# Altium schematic symbol library ECD_Library.SchLib: 24 symbols
Pins are listed as number, name and electrical type; pins without a type are passive.

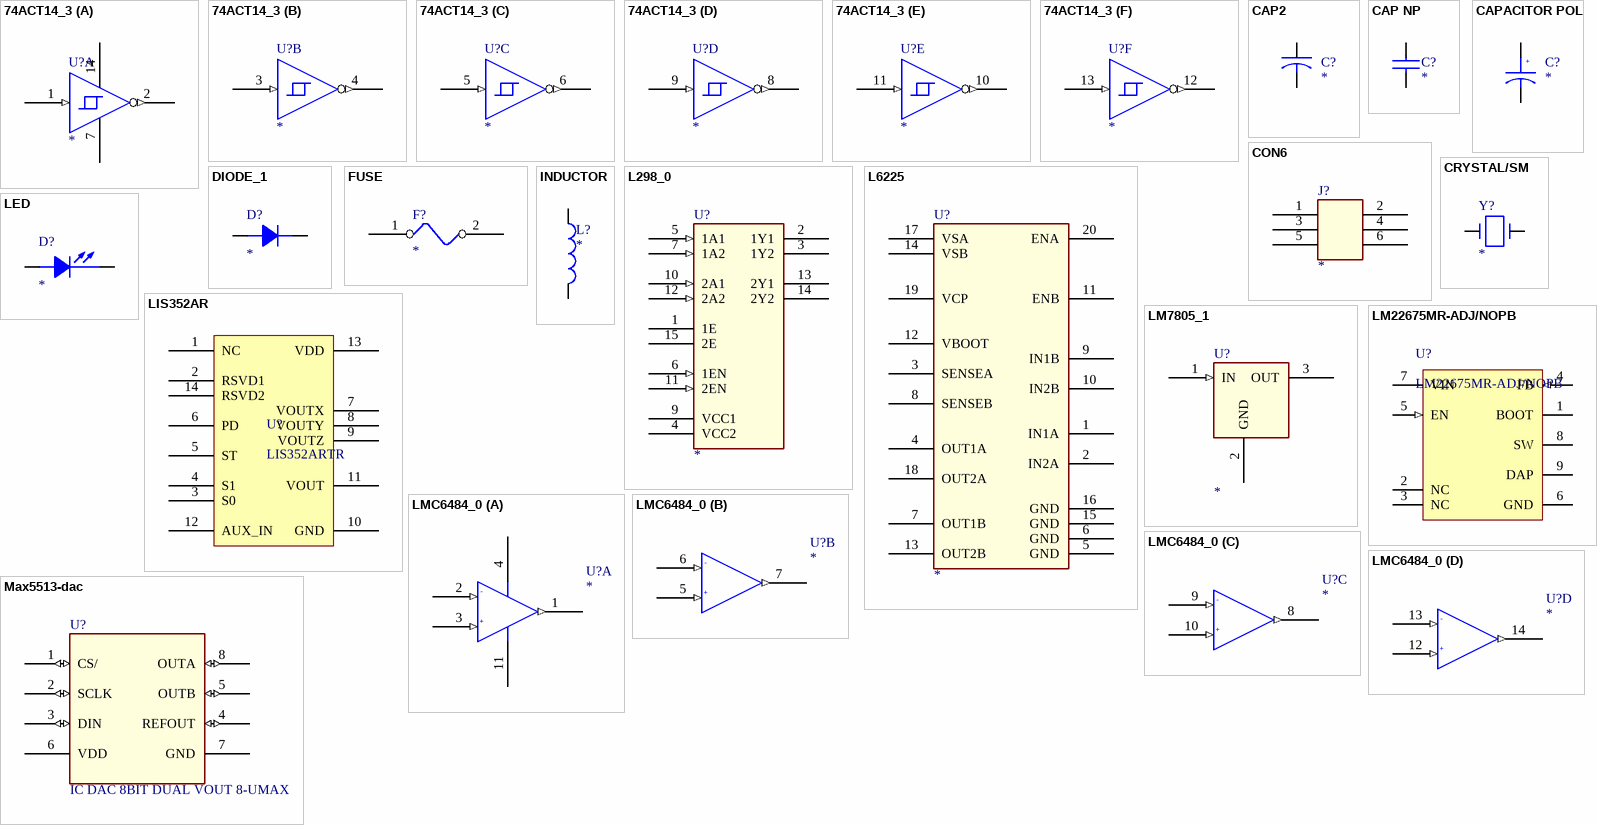
[diagram p0: symbols 74ACT14_3 to Max5513-dac]

## 74ACT14_3
designator U?
IC INVERTER HEX SCHMITT 14SOIC; MPN: 74ACT14SCX; PN: 74ACT14SCXCT-ND; URL: http://www.digikey.ca/product-detail/en/74ACT14SCX/74ACT14SCXCT-ND
footprint SOIC127P600X175-14M (SOIC, 14-Leads, Body 8.65x3.90mm, Pitch 1.27mm, IPC Low Density)
part A pins: 1 A (in), 2 Y (out), 7 GND_POWER (power), 14 VCC (power)
part B pins: 3 A (in), 4 Y (out)
part C pins: 5 A (in), 6 Y (out)
part D pins: 8 Y (out), 9 A (in)
part E pins: 10 Y (out), 11 A (in)
part F pins: 12 Y (out), 13 A (in)

## CAP2
designator C?
pins: 1, 2

## CAP NP
designator C?
pins: 1, 2

## CAPACITOR POL
designator C?
pins: 1, 2
text: +

## CON6
designator J?
CONN HEADER BRKWAY 6POS DL .100; MPN: 5-146254-3; PN: A105155-ND; URL: http://www.digikey.ca/product-detail/en/5-146254-3/A105155-ND
footprint HDR3X2 (Connector; Header Male; 3x2 Position)
pins: 1, 2, 3, 4, 5, 6

## CRYSTAL/SM
designator Y?
pins: 1, 2

## DIODE_1
designator D?
pins: 1 A, 2 C

## FUSE
designator F?
pins: 1, 2

## INDUCTOR
designator L?
pins: 1, 2

## L298_0
designator U?
IC BRIDGE DRIVER PAR 15MULTIWATT; MPN: L298N; PN: 497-1395-5-ND; URL: http://www.digikey.ca/product-detail/en/L298N/497-1395-5-ND
footprint ZIGZAG.100/L.850/15_VERT
pins: 1 1E, 2 1Y1 (hiz), 3 1Y2 (hiz), 4 VCC2 (power), 5 1A1 (in), 6 1EN (in), 7 1A2 (in), 8 GND_POWER (power) hidden to GND_POWER, 9 VCC1 (power), 10 2A1 (in), 11 2EN (in), 12 2A2 (in), 13 2Y1 (hiz), 14 2Y2 (hiz), 15 2E

## L6225
designator U?
IC MOTOR DRIVER PAR 20POWERSO; MPN: L6225PDTR; PN: 497-5345-1-ND; URL: http://www.digikey.ca/product-detail/en/L6225PDTR/497-5345-1-ND
footprint POWERSOP20
pins: 1 IN1A, 2 IN2A, 3 SENSEA (oc), 4 OUT1A, 5 GND (power), 6 GND (power), 7 OUT1B, 8 SENSEB (power), 9 IN1B, 10 IN2B, 11 ENB, 12 VBOOT (power), 13 OUT2B, 14 VSB (power), 15 GND (power), 16 GND (power), 17 VSA (power), 18 OUT2A, 19 VCP (power), 20 ENA

## LED
designator D?
pins: 1 A, 2 C

## LIS352AR
designator U?, comment LIS352ARTR
IC ACCELEROMETER 3AXIS LP 14LGA; PN: 497-11075-1-ND; MPN: LIS352ARTR; URL: http://www.digikey.ca/product-detail/en/LIS352ARTR/497-11075-1-ND
footprint LGA-14-3X5MM
pins: 1 NC "Internally not connected", 2 RSVD1 "Connect to Vdd", 3 S0 "Mux selector 0 (connect to Vdd or to GND)", 4 S1 "Mux selector 1 (connect to Vdd or to GND)", 5 ST "Self-test (logic 0: normal mode; logic 1: self-test)", 6 PD "Power-down (logic 0: normal mode; logic 1: power-down mode)", 7 VOUTX "Output voltage X channel", 8 VOUTY "Output voltage Y channel", 9 VOUTZ "Output voltage Z channel", 10 GND "0 V supply", 11 VOUT "Multiplexer output", 12 AUX_IN "Auxiliary input", 13 VDD "Power supply", 14 RSVD2 "Connect to Vdd"

## LM7805_1
designator U?
IC REG LDO 5V 1A TO220-3; MPN: LM7805CT; PN: LM7805CT-ND; URL: http://www.digikey.ca/product-detail/en/LM7805CT/LM7805CT-ND
footprint TO220
pins: 1 IN (in), 2 GND, 3 OUT (power)

## LM22675MR-ADJ/NOPB
designator U?
1A SIMPLE SWITCHER®, Step-Down Voltage Regulator with Precision Enable, 8-pin PSOP, Pb-Free; Manufacturer: National Semiconductor; MPN: LM22675MRE-ADJ/NOPB; PackageTopMarking: NSXYTT*L22675*ADJ; PowerWise: N; High-Reliability: Y; PN: LM22675MRE-ADJ/NOPBCT-ND; DatasheetVersion: Dec-2010; PackageVersion: revB, Dec-2007; PackageReference: MRA08B; PackageDescription: Molded, PSOP .193 x .154 x .058in, 8 Lead, .050in Pitch, Large DAP; PartNumber: LM22675MR-ADJ/NOPB; RoHS: Y; PinCount: 8; CompType: Switcher; Code_JEDEC: MS-012-AA; ComponentLink1Description: Manufacturer URL; ComponentLink1URL: http://www.national.com/; ComponentLink2Description: LM22675 Datasheet; ComponentLink2URL: http://www.national.com/ds/LM/LM22675.pdf; ComponentLink3Description: LM22675 Web Page; ComponentLink3URL: http://www.national.com/pf/LM/LM22675.html; ComponentLink4Description: MRA08B Package Page; ComponentLink4URL: http://www.national.com/packaging/folders/mra08b.html; URL: http://www.digikey.ca/product-detail/en/LM22675MRE-ADJ%2FNOPB/LM22675MRE-ADJ%2FNOPBCT-ND
footprint MRA08B_N (SOIC, 8-Leads, Body 4.9x3.9mm, Pitch 1.27mm, Thermal Pad, IPC Medium Density)
footprint MRA08B_L (SOIC, 8-Leads, Body 4.9x3.9mm, Pitch 1.27mm, Exposed Pad, IPC High Density)
footprint MRA08B_M (SOIC, 8-Leads, Body 4.9x3.9mm, Pitch 1.27mm, Thermal Pad, IPC Low Density)
pins: 1 BOOT, 2 NC, 3 NC, 4 FB (in), 5 EN (in), 6 GND (power), 7 VIN (power), 8 SW (power), 9 DAP (power)

## LMC6484_0
designator U?
IC OPAMP GP 1.5MHZ RRO 14SOIC; MPN: LMC6484IMX/NOPB; PN: LMC6484IMX/NOPBCT-ND; URL: http://www.digikey.ca/product-detail/en/LMC6484IMX%2FNOPB/LMC6484IMX%2FNOPBCT-ND
footprint SOIC127P600X175-14M-NS (SOIC, 14-Leads, Body 8.62x3.90mm, Pitch 1.27mm, IPC Low Density)
part A pins: 1 OUT1 (out), 2 INVIN 1 (in), 3 NINVIN 1 (in), 4 VCC (power), 11 -VCC (power)
part B pins: 5 NINVIN2 (in), 6 INVIN2 (in), 7 OUT2 (out)
part C pins: 8 OUT3 (out), 9 INVIN3 (in), 10 NINVIN3 (in)
part D pins: 12 NINVIN4 (in), 13 INVIN4 (in), 14 OUT4 (out)
part A text: -; +
part B text: -; +
part C text: -; +
part D text: -; +

## Max5513-dac
designator U?, comment IC DAC 8BIT DUAL VOUT 8-UMAX
MPN: MAX5513EUA+; PN: MAX5513EUA+-ND; URL: http://www.digikey.ca/product-detail/en/MAX5513EUA%2B/MAX5513EUA%2B-ND
footprint TSOP65P490X110-8M (TSOP, 8-Leads, Body 3.00x3.00mm, Pitch 0.65mm, IPC Low Density)
pins: 1 CS/ (io), 2 SCLK (io), 3 DIN (io), 4 REFOUT (io), 5 OUTB (io), 6 VDD (power), 7 GND (power), 8 OUTA (io)

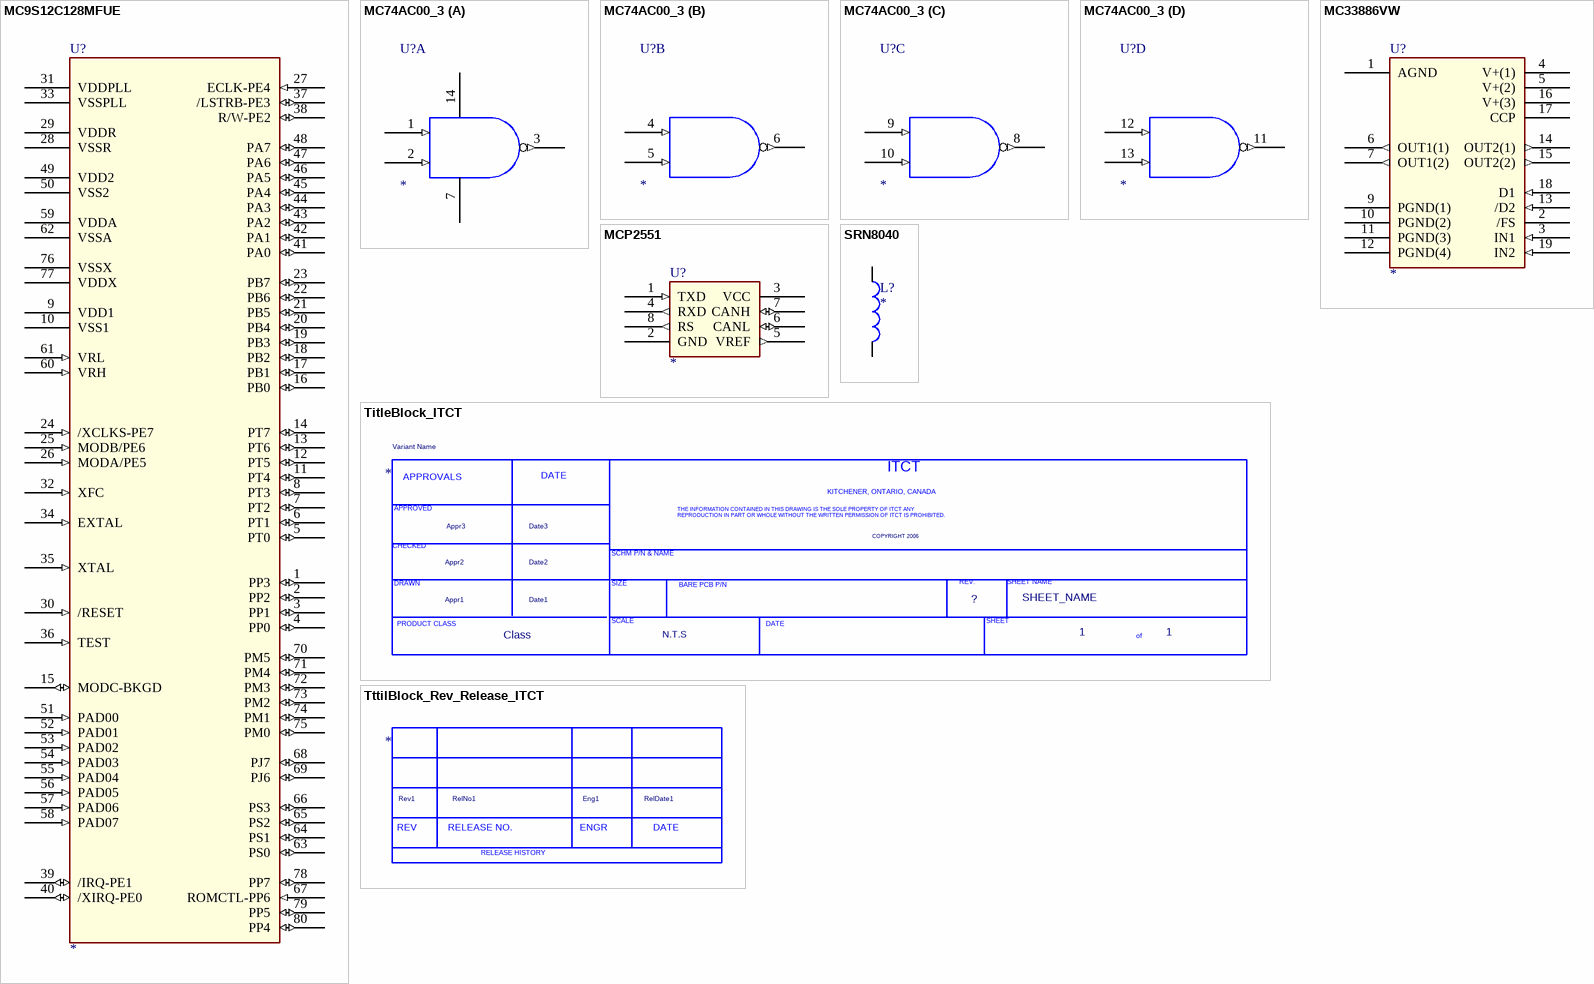
[diagram p1: symbols MC9S12C128MFUE to TttilBlock_Rev_Release_ITCT]

## MC9S12C128MFUE
designator U?
IC MCU 16BIT 128KB FLASH 80QFP; MPN: MC9S12C32CFUE25; PN: MC9S12C32CFUE25-ND; URL: http://www.digikey.ca/product-detail/en/MC9S12C32CFUE25/MC9S12C32CFUE25-ND
footprint QUAD.65M/80/WG17.45-HCS12
pins: 1 PP3 (io), 2 PP2 (io), 3 PP1 (io), 4 PP0 (io), 5 PT0 (io), 6 PT1 (io), 7 PT2 (io), 8 PT3 (io), 9 VDD1 (power), 10 VSS1 (power), 11 PT4 (io), 12 PT5 (io), 13 PT6 (io), 14 PT7 (io), 15 MODC-BKGD (io), 16 PB0 (io), 17 PB1 (io), 18 PB2 (io), 19 PB3 (io), 20 PB4 (io), 21 PB5 (io), 22 PB6 (io), 23 PB7 (io), 24 /XCLKS-PE7 (in), 25 MODB/PE6 (in), 26 MODA/PE5 (in), 27 ECLK-PE4 (in), 28 VSSR (power), 29 VDDR (power), 30 /RESET (in), 31 VDDPLL (power), 32 XFC (in), 33 VSSPLL (power), 34 EXTAL (in), 35 XTAL (in), 36 TEST (in), 37 /LSTRB-PE3 (io), 38 R/W-PE2 (io), 39 /IRQ-PE1 (io), 40 /XIRQ-PE0 (io), 41 PA0 (io), 42 PA1 (io), 43 PA2 (io), 44 PA3 (io), 45 PA4 (io), 46 PA5 (io), 47 PA6 (io), 48 PA7 (io), 49 VDD2 (power), 50 VSS2 (power), 51 PAD00 (in), 52 PAD01 (in), 53 PAD02 (in), 54 PAD03 (in), 55 PAD04 (in), 56 PAD05 (in), 57 PAD06 (in), 58 PAD07 (in), 59 VDDA (power), 60 VRH (in), 61 VRL (in), 62 VSSA (power), 63 PS0 (io), 64 PS1 (io), 65 PS2 (io), 66 PS3 (io), 67 ROMCTL-PP6 (in), 68 PJ7 (io), 69 PJ6 (io), 70 PM5 (io), 71 PM4 (io), 72 PM3 (io), 73 PM2 (io), 74 PM1 (io), 75 PM0 (io), 76 VSSX (power), 77 VDDX (power), 78 PP7 (io), 79 PP5 (io), 80 PP4 (io)

## MC74AC00_3
designator U?
IC GATE NAND 4CH 2-INP 14-SOIC; MPN: MC74AC00DR2G; PN: MC74AC00DR2GOSCT-ND; URL: http://www.digikey.com/product-detail/en/MC74AC00DR2G/MC74AC00DR2GOSCT-ND
footprint SOIC127P600X175-14M (SOIC, 14-Leads, Body 8.65x3.90mm, Pitch 1.27mm, IPC Low Density)
part A pins: 1 I0 (in), 2 I1 (in), 3 O (out), 7 (power), 14 VCC (power)
part B pins: 4 I0 (in), 5 I1 (in), 6 O (out)
part C pins: 8 O (out), 9 I0 (in), 10 I1 (in)
part D pins: 11 O (out), 12 I0 (in), 13 I1 (in)
1 alternate drawing of the same symbol

## MC33886VW
designator U?
IC MOTOR DRIVER PAR 20HSOP; MPN: MC33886PVW; PN: MC33886PVW-ND; URL: http://www.digikey.ca/product-detail/en/MC33886PVW/MC33886PVW-ND
footprint POWERSOP20
pins: 1 AGND (power), 2 /FS (oc), 3 IN1 (in), 4 V+(1) (power), 5 V+(2) (power), 6 OUT1(1) (out), 7 OUT1(2) (out), 9 PGND(1) (power), 10 PGND(2) (power), 11 PGND(3) (power), 12 PGND(4) (power), 13 /D2 (in), 14 OUT2(1) (out), 15 OUT2(2) (out), 16 V+(3) (power), 17 CCP, 18 D1 (in), 19 IN2 (in)

## MCP2551
designator U?
IC TRANSCEIVER CAN HI-SPD 8-SOIC; MPN: MCP2551T-E/SN; PN: MCP2551T-E/SNCT-ND; URL: http://www.digikey.com/product-detail/en/MCP2551T-E%2FSN/MCP2551T-E%2FSNCT-ND
footprint SOIC127P600X175-8M (SOIC, 8-Leads, Body 4.90x3.90mm, Pitch 1.27mm, IPC Low Density)
pins: 1 TXD (in), 2 GND (power), 3 VCC (power), 4 RXD (out), 5 VREF (out), 6 CANL (io), 7 CANH (io), 8 RS (out)

## SRN8040
designator L?
FIXED IND 22UH 2.2A 100 MOHM SMD; MPN: SRN8040-220M; PN: SRN8040-220MCT-ND; URL: http://www.digikey.ca/product-detail/en/SRN8040-220M/SRN8040-220MCT-ND
footprint INDP8080X40M (Precision Wire Wound Inductor, 2-Leads, Body 8.00x8.00mm, IPC Low Density)
pins: 1, 2

## TitleBlock_ITCT
designator *  scale: N.T.S  Page Number: 1  Copyright: COPYRIGHT 2006  (graphical)
Cage Code: cage code; Variant Name: Variant Name; SHEET_NAME: SHEET_NAME; RevCode: ?; Page Count: 1; Class: Class; Date1: Date1; Date2: Date2; Date3: Date3; Appr1: Appr1; Appr2: Appr2; Appr3: Appr3
text: ITCT; APPROVALS; DATE; KITCHENER, ONTARIO, CANADA; THE INFORMATION CONTAINED IN THIS DRAWING IS THE SOLE PROPERTY OF ITCT ANY / REPRODUCTION IN PART OR WHOLE WITHOUT THE WRITTEN PERMISSION OF ITCT IS PROHIBITED.; APPROVED; CHECKED; SCHM P/N & NAME; DRAWN; SIZE; BARE PCB P/N; REV.; SHEET NAME; SCALE; SHEET; PRODUCT CLASS; of

## TttilBlock_Rev_Release_ITCT
designator *  (graphical)
Page Count: 1; Page Number: 1; RevCode: ?; RelDate1: RelDate1; Eng1: Eng1; RelNo1: RelNo1; Rev1: Rev1
text: REV; RELEASE NO.; ENGR; DATE; RELEASE HISTORY